# Altium schematic symbol library SMD Electrolytic Tantalum capacitors.SchLib: 7 symbols
Pins are listed as number, name and electrical type; pins without a type are passive.

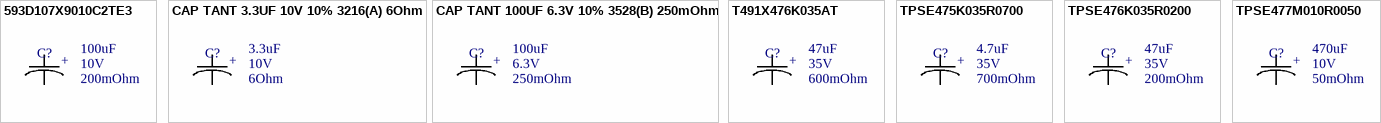
[diagram p0: symbols 593D107X9010C2TE3 to TPSE477M010R0050]

## 593D107X9010C2TE3
designator C?  value 100uF  ESR: 200mOhm  Voltage: 10V  (hidden comment: 593D107X9010C2TE3)
CAP TANT 100UF 10V 10% 6032(C) 200mOhm; Manufacturer: VISHAY
footprint LC-CASE-C_6032
pins: 1 +, 2 -

## CAP TANT 3.3UF 10V 10% 3216(A) 6Ohm
designator C?  value 3.3uF  ESR: 6Ohm  Voltage: 10V  (hidden comment: CAP TANT 3.3UF 10V 10% 3216(A) 6Ohm)
footprint LC-CASE-A_3216
pins: 1 +, 2 -

## CAP TANT 100UF 6.3V 10% 3528(B) 250mOhm
designator C?  value 100uF  ESR: 250mOhm  Voltage: 6.3V  (hidden comment: CAP TANT 100UF 6.3V 10% 3528(B) 250mOhm)
footprint LC-CASE-B_3528
pins: 1 +, 2 -

## T491X476K035AT
designator C?  value 47uF  ESR: 600mOhm  Voltage: 35V  (hidden comment: T491X476K035AT)
CAP TANT 47UF 35V 10% 7343H(E) 600mOhm; Manufacturer: Kemet
footprint LC-CASE-E_7343_H4.3MM
pins: 1 +, 2 -

## TPSE475K035R0700
designator C?  value 4.7uF  ESR: 700mOhm  Voltage: 35V  (hidden comment: TPSE475K035R0700)
CAP TANT 4.7UF 35V 10% 7343H(E) 700mOhm; Manufacturer: Kemet
footprint LC-CASE-B_3528
pins: 1 +, 2 -

## TPSE476K035R0200
designator C?  value 47uF  ESR: 200mOhm  Voltage: 35V  (hidden comment: TPSE476K035R0200)
CAP TANT 47UF 35V 10% 7343H(E) 200mOhm; Manufacturer: Kemet
footprint LC-CASE-E_7343_H4.3MM
pins: 1 +, 2 -

## TPSE477M010R0050
designator C?  value 470uF  ESR: 50mOhm  Voltage: 10V  (hidden comment: TPSE477M010R0050)
CAP TANT 470UF 10V 20% 7343H(E) 50mOhm; Manufacturer: AVX
footprint LC-CASE-E_7343_H4.3MM
pins: 1 +, 2 -